# Altium schematic symbol library Schlib1.SchLib: 17 symbols
Pins are listed as number, name and electrical type; pins without a type are passive.

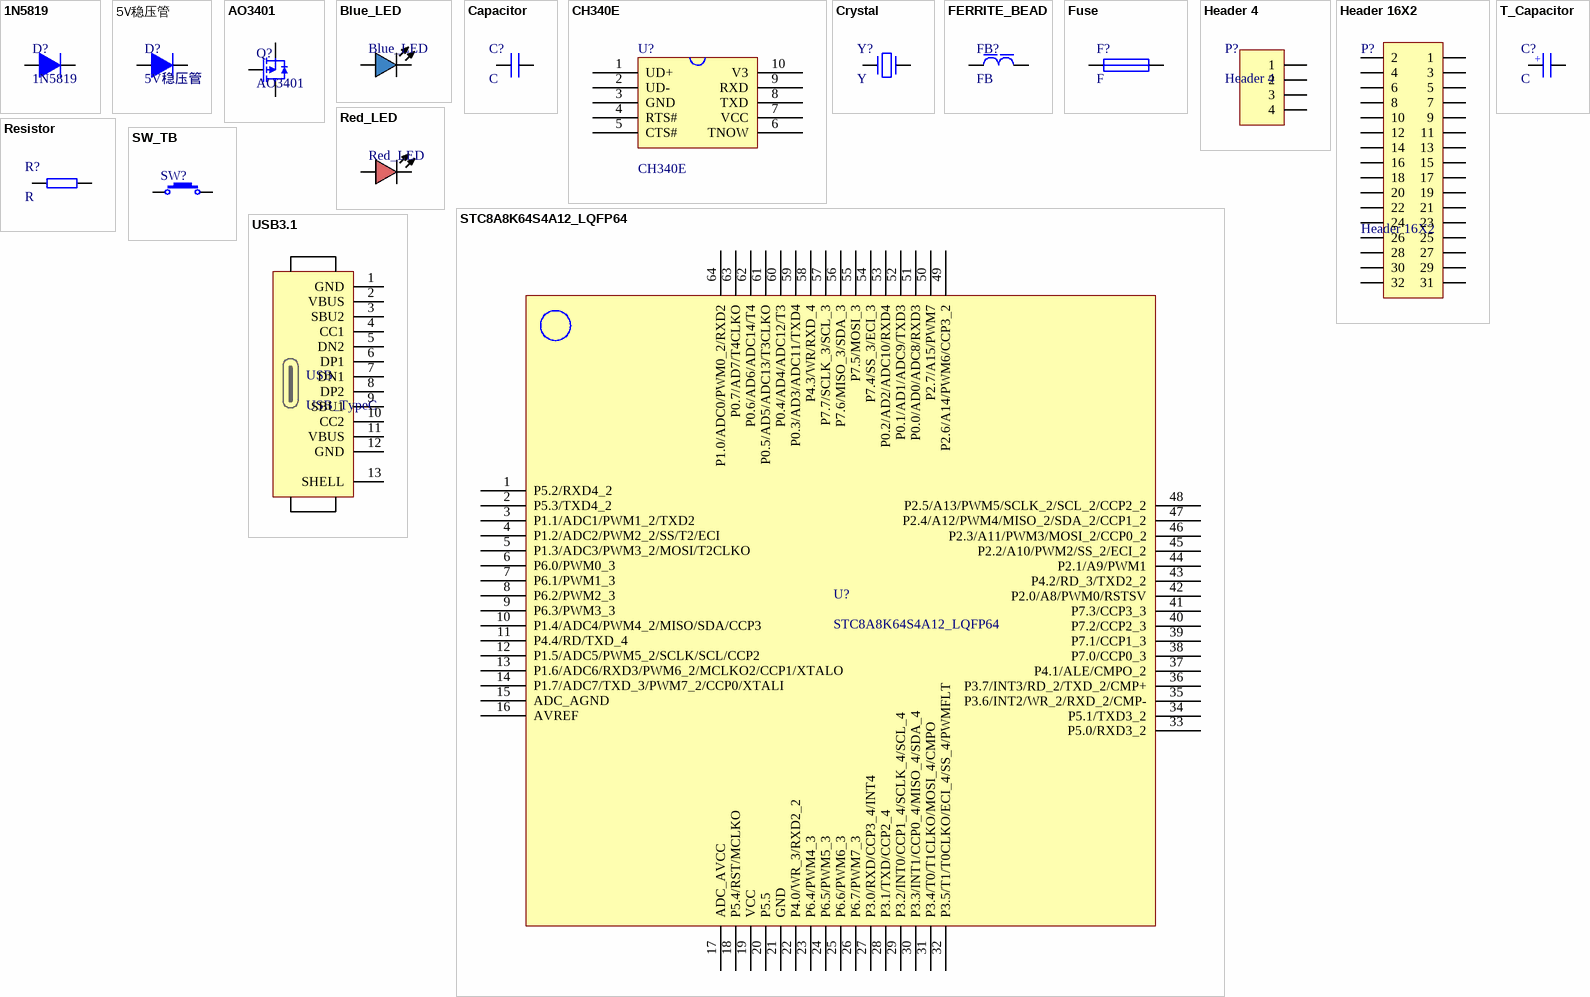
[diagram p0: symbols 1N5819 to USB3.1]

## 1N5819
designator D?
footprint SOD-323 (1.8x1.3X0.9mm（长宽高，不包括引脚）)
pins: 1, 2

## 5V稳压管
designator D?
footprint SOD-323 (1.8x1.3X0.9mm（长宽高，不包括引脚）)
pins: 1, 2

## AO3401
designator Q?
BOM名称: P沟道场效应管; 版权归属: 源创客; 学习资源: www.ooocke.com
footprint SOT-23
pins: 1, 2, 3

## Blue_LED
designator Blue_LED  (value not drawn)
footprint LED 0603B (蓝色0603LED)
pins: 1, 2

## Capacitor
designator C?, comment C
电容; BOM名称: 无极性贴片电容; 版权归属: 源创客; 学习资源: www.ooocke.com
footprint 0603电容
pins: 1, 2

## CH340E
designator U?
footprint MSOP-10 (塑封体长3mm，宽3mm，脚距0.5)
pins: 1 UD+, 2 UD-, 3 GND, 4 RTS#, 5 CTS#, 6 TNOW, 7 VCC, 8 TXD (power), 9 RXD (power), 10 V3

## Crystal
designator Y?, comment Y
晶振; BOM名称: 2脚晶振; 版权归属: 源创客; 学习资源: www.ooocke.com
footprint XTAL-SMD3225
pins: 1, 3

## FERRITE_BEAD
designator FB?, comment FB
磁珠
footprint 0603磁珠
pins: 1, 2

## Fuse
designator F?, comment F
Fuse
footprint 0603保险丝
pins: 1, 2

## Header 4
designator P?
4P接插件; 版权归属: 源创客; BOM名称: 4P接插件; 学习资源: www.ooocke.com
footprint HDR-1X4 (排针，4脚)
pins: 1, 2, 3, 4

## Header 16X2
designator P?
16*2P接插件; 版权归属: 源创客; BOM名称: 16*2P接插件; 学习资源: www.ooocke.com
footprint HDR-16X2 (双排排针，16x2脚)
pins: 1, 2, 3, 4, 5, 6, 7, 8, 9, 10, 11, 12, 13, 14, 15, 16, 17, 18, 19, 20, 21, 22, 23, 24, 25, 26, 27, 28, 29, 30, 31, 32

## Red_LED
designator Red_LED  (value not drawn)
footprint LED 0603R (红色0603LED)
pins: 1, 2

## Resistor
designator R?, comment R
电阻; BOM名称: 贴片电阻; 版权归属: 源创客; 学习资源: www.ooocke.com
footprint 0603电阻
pins: 1, 2

## STC8A8K64S4A12_LQFP64
designator U?
footprint LQFP64-10*10 (10x10mm，0.5mm)
pins: 1 P5.2/RXD4_2, 2 P5.3/TXD4_2, 3 P1.1/ADC1/PWM1_2/TXD2, 4 P1.2/ADC2/PWM2_2/SS/T2/ECI, 5 P1.3/ADC3/PWM3_2/MOSI/T2CLKO, 6 P6.0/PWM0_3, 7 P6.1/PWM1_3, 8 P6.2/PWM2_3, 9 P6.3/PWM3_3, 10 P1.4/ADC4/PWM4_2/MISO/SDA/CCP3, 11 P4.4/RD/TXD_4, 12 P1.5/ADC5/PWM5_2/SCLK/SCL/CCP2, 13 P1.6/ADC6/RXD3/PWM6_2/MCLKO2/CCP1/XTALO, 14 P1.7/ADC7/TXD_3/PWM7_2/CCP0/XTALI, 15 ADC_AGND, 16 AVREF, 17 ADC_AVCC, 18 P5.4/RST/MCLKO, 19 VCC, 20 P5.5, 21 GND, 22 P4.0/WR_3/RXD2_2, 23 P6.4/PWM4_3, 24 P6.5/PWM5_3, 25 P6.6/PWM6_3, 26 P6.7/PWM7_3, 27 P3.0/RXD/CCP3_4/INT4, 28 P3.1/TXD/CCP2_4, 29 P3.2/INT0/CCP1_4/SCLK_4/SCL_4, 30 P3.3/INT1/CCP0_4/MISO_4/SDA_4, 31 P3.4/T0/T1CLKO/MOSI_4/CMPO, 32 P3.5/T1/T0CLKO/ECI_4/SS_4/PWMFLT, 33 P5.0/RXD3_2, 34 P5.1/TXD3_2, 35 P3.6/INT2/WR_2/RXD_2/CMP-, 36 P3.7/INT3/RD_2/TXD_2/CMP+, 37 P4.1/ALE/CMPO_2, 38 P7.0/CCP0_3, 39 P7.1/CCP1_3, 40 P7.2/CCP2_3, 41 P7.3/CCP3_3, 42 P2.0/A8/PWM0/RSTSV, 43 P4.2/RD_3/TXD2_2, 44 P2.1/A9/PWM1, 45 P2.2/A10/PWM2/SS_2/ECI_2, 46 P2.3/A11/PWM3/MOSI_2/CCP0_2, 47 P2.4/A12/PWM4/MISO_2/SDA_2/CCP1_2, 48 P2.5/A13/PWM5/SCLK_2/SCL_2/CCP2_2, 49 P2.6/A14/PWM6/CCP3_2, 50 P2.7/A15/PWM7, 51 P0.0/AD0/ADC8/RXD3, 52 P0.1/AD1/ADC9/TXD3, 53 P0.2/AD2/ADC10/RXD4, 54 P7.4/SS_3/ECI_3, 55 P7.5/MOSI_3, 56 P7.6/MISO_3/SDA_3, 57 P7.7/SCLK_3/SCL_3, 58 P4.3/WR/RXD_4, 59 P0.3/AD3/ADC11/TXD4, 60 P0.4/AD4/ADC12/T3, 61 P0.5/AD5/ADC13/T3CLKO, 62 P0.6/AD6/ADC14/T4, 63 P0.7/AD7/T4CLKO, 64 P1.0/ADC0/PWM0_2/RXD2

## SW_TB
designator SW?
轻触开关
footprint SWD (轻触开关3*4*2.5)
pins: 1, 2

## T_Capacitor
designator C?, comment C
贴片钽电容; 版权归属: 源创客; BOM名称: 贴片钽电容; 学习资源: www.ooocke.com
footprint Tan1206
pins: 1 A, 2 K
text: +

## USB3.1
designator USB, comment USB_TypeC
TypeC接口
footprint USB3.1 TypeC
pins: 1 GND, 2 VBUS, 3 SBU2, 4 CC1, 5 DN2, 6 DP1, 7 DN1, 8 DP2, 9 SBU1, 10 CC2, 11 VBUS, 12 GND, 13 SHELL